# EAGLE library part ADUM1402ARWZ (library nanoeeg)
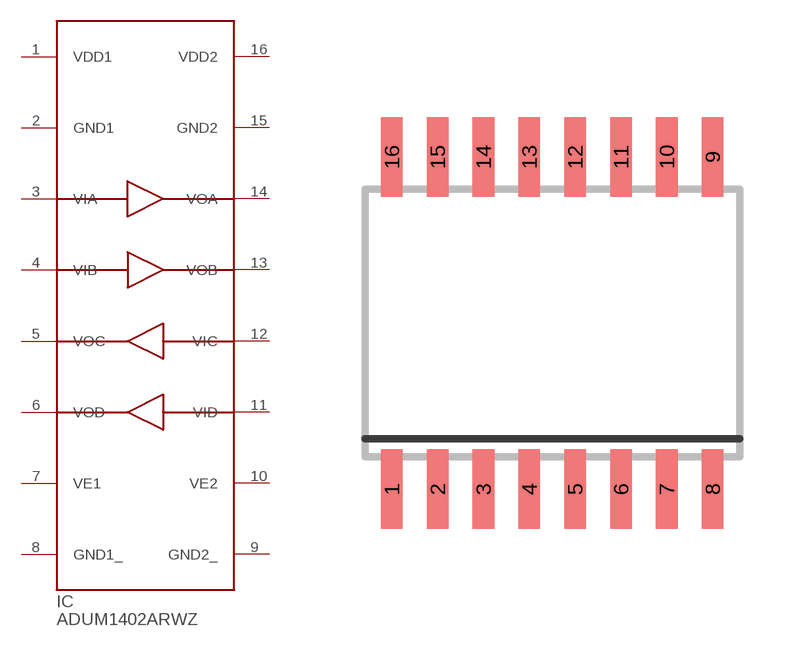
[diagram p4: symbol with the pads of ADUM1402ARWZ; footprint ADUM1402ARWZ]

Designator prefix IC

## ADUM1402ARWZ  [ADUM1402ARWZ]
1  VDD1
2  GND1
3  VIA
4  VIB
5  VOC
6  VOD
7  VE1
8  GND1_
9  GND2_
10  VE2
11  VID
12  VIC
13  VOB
14  VOA
15  GND2
16  VDD2

## Footprint ADUM1402ARWZ (pad centres in mm)
Small Outline Integrated Circuit wide
smd 0.6 x 2.2: 1 -4.445,-4.6; 2 -3.175,-4.6; 3 -1.905,-4.6; 4 -0.635,-4.6; 5 0.635,-4.6; 6 1.905,-4.6; 7 3.175,-4.6; 8 4.445,-4.6; 9 4.445,4.6; 10 3.175,4.6; 11 1.905,4.6; 12 0.635,4.6; 13 -0.635,4.6; 14 -1.905,4.6; 15 -3.175,4.6; 16 -4.445,4.6